# Altium footprint library PcbLib2.PcbLib: 22 footprints (part 2 of 2)
Each footprint in its own frame and in the unit in brackets; x right, y up, seen from the top. Pads: shape width x height; smd on the part's side, far side on the other; paste and mask are expansions set on the pad; w line width, h text height; cw(c..) or ccw(c..) is an arc to the next point about the centre after c.
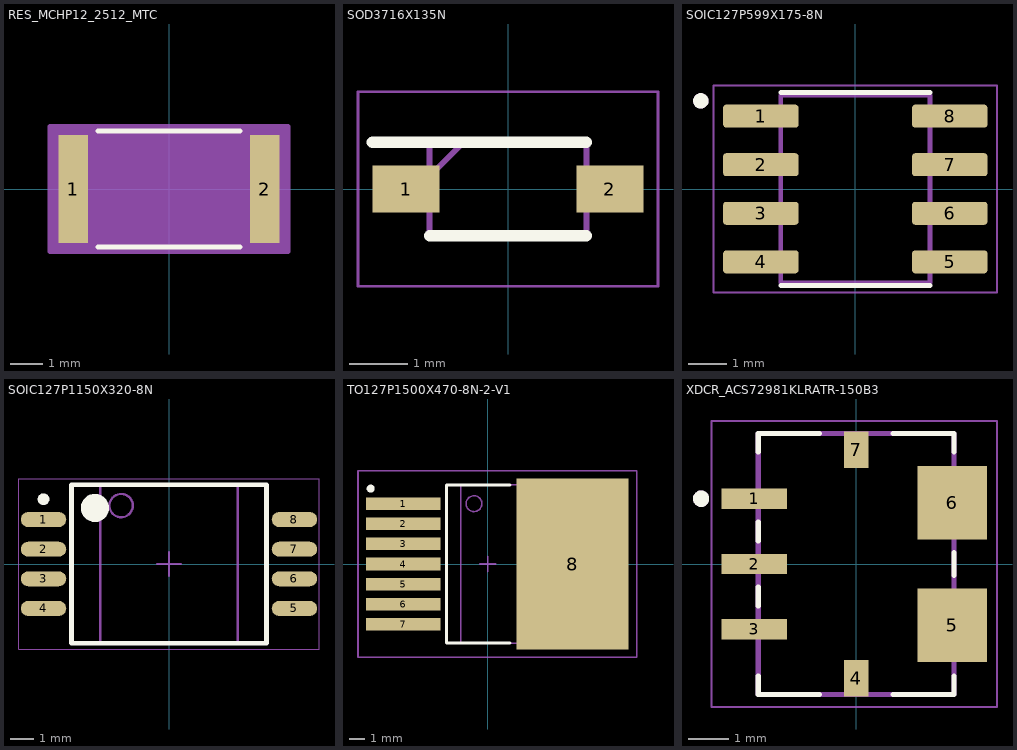
[diagram p1: the footprints below, top view; thin cyan lines are the x and y axes]

## RES_MCHP12_2512_MTC [mil]
pads (2):
  rect 36x132 smd paste+0 mask+0: 1(-117,0) 2(117,0)
Top Overlay:
  lines w6: -86.89,-71 86.89,-71 ; -86.89,71 86.89,71
Top Designator:
  text ".Designator" at -166.23,-19.99 h60
Mechanical 13:
  lines w1: -127,-66 -127,66 ; -127,-66 -99,-66 -99,66 -127,66 ; -127,-66 127,-66 ; -127,-66 -127,66 ; -127,66 127,66 ; 127,-66 99,-66 99,66 127,66 ; 127,-66 127,66 ; 127,-66 127,66
Mechanical 15:
  region: 145,-76 -145,-76 -145,76 145,76
  lines w6: -145,-76 -145,76 145,76 145,-76 -145,-76
3D body "RES_MCHP12_2512_MTC.step": height 25.98, standoff 0, extent -127.01,-65.98 127.01,65.98

## SOD3716X135N [mm]
pads (2):
  rect 1.15x0.8 smd: 1(-1.75,0) 2(1.75,0)
Top Overlay:
  lines w0.2: -2.325,0.8 1.345,0.8 ; -1.345,-0.8 1.345,-0.8
Top Designator:
  text ".Designator" at -7.618,-0.508 h1.52
Mechanical 15:
  lines w0.1: -1.345,0.225 -0.77,0.8 ; -1.345,-0.8 1.345,-0.8 1.345,0.8 -1.345,0.8 -1.345,-0.8
Mechanical 20:
  lines w0.05: -2.575,-1.67 2.575,-1.67 2.575,1.67 -2.575,1.67 -2.575,-1.67
3D body "SZMMSZ3V3T1G.stp": height 1.35, standoff 0, extent -1.855,-0.8 1.855,0.8

## SOIC127P599X175-8N [mm]
pads (8):
  rrect25% 1.97x0.6 smd: 1(-2.47,1.905) 2(-2.47,0.635) 3(-2.47,-0.635) 4(-2.47,-1.905) 5(2.47,-1.905) 6(2.47,-0.635) 7(2.47,0.635) 8(2.47,1.905)
Top Overlay:
  circle w0.2: c-4.04,2.305 r0.1
  lines w0.127: -1.95,-2.525 1.95,-2.525 ; -1.95,2.525 1.95,2.525
Top Designator:
  text ".Designator" at -7.873,-0.508 h1.52
Mechanical 13:
  circle w0.2: c-4.04,2.305 r0.1
  lines w0.127: -1.95,-2.452 -1.95,2.452 1.95,2.452 1.95,-2.452 -1.95,-2.452
Mechanical 15:
  lines w0.05: -3.705,-2.702 -3.705,2.702 3.705,2.702 3.705,-2.702 -3.705,-2.702
3D body "OPA237UA (1).STEP": height 1.75, standoff 0, extent -3,-2.45 3,2.45

## SOIC127P1150X320-8N [mm] "SOIC, 8-Leads, Body 6,80x5,85mm, Pitch 1,27mm, IPC Medium Density"
height 3.2
pads (8):
  oval 1.95x0.64 smd: 1(-5.375,1.905) 2(-5.375,0.635) 3(-5.375,-0.635) 4(-5.375,-1.905) 5(5.375,-1.905) 6(5.375,-0.635) 7(5.375,0.635) 8(5.375,1.905)
Top Overlay:
  circle w0.6: c-3.175,2.4 r0.3
  circle w0.25: c-5.375,2.775 r0.125
  lines w0.2: -4.175,-3.4 4.175,-3.4 4.175,3.4 -4.175,3.4 -4.175,-3.4
Top Designator:
  text ".Designator" at -7.618,-0.508 h1.52
Mechanical 13:
  circle w0.1: c-2.05,2.5 r0.5
  lines w0.1: -2.95,-3.4 2.95,-3.4 2.95,3.4 -2.95,3.4 -2.95,-3.4
Mechanical 15:
  lines w0.05: -6.425,-3.65 6.425,-3.65 6.425,3.65 -6.425,3.65 -6.425,-3.65
  lines w0.1: -0.5,0 0.5,0 ; 0,-0.5 0,0.5
3D body "SOIC127P1150X320-8N.step": height 3.2, standoff 0, extent -5.75,-3.4 5.75,3.4

## TO127P1500X470-8N-2-V1 [mm] "TO,1.27mm pitch;7 pin,15.00mm L X 9.25mm W X 4.70mm H body"
height 4.7
pads (8):
  rect 4.7x0.8 smd paste-0.05 mask+0: 1(-5.35,3.81) 2(-5.35,2.54) 3(-5.35,1.27) 4(-5.35,0) 5(-5.35,-1.27) 6(-5.35,-2.54) 7(-5.35,-3.81)
  rect 7.1x10.8 smd paste-3.55 mask+0: 8(5.35,0)
Top Overlay:
  circle w0.25: c-7.4,4.76 r0.125
  lines w0.2: 1.4,-5 -2.6,-5 -2.6,5 1.4,5
Top Paste:
  region: 5.195,-0.15 1.845,-0.15 1.845,-5.35 5.195,-5.35
  region: 5.195,5.35 1.845,5.35 1.845,0.15 5.195,0.15
  region: 8.845,-0.15 5.495,-0.15 5.495,-5.35 8.845,-5.35
  region: 8.845,5.35 5.495,5.35 5.495,0.15 8.845,0.15
Top Designator:
  text ".Designator" at -7.018,-0.508 h1.52
Mechanical 3:
  text ".DESIGNATOR" at 0,0 h1.2
Mechanical 13:
  circle w0.1: c-0.871,3.81 r0.5
  lines w0.1: -1.7,-5 7.55,-5 7.55,5 -1.7,5 -1.7,-5
Mechanical 15:
  lines w0.1: -0.5,0 0.5,0 ; 0,-0.5 0,0.5 ; -8.2,-5.9 9.4,-5.9 9.4,5.9 -8.2,5.9 -8.2,-5.9
3D body "PG-TO263-7-12_Z8B00189320_01_3D.stp": height 4.51, standoff 0, extent -6.4,-5 8.55,5

## XDCR_ACS72981KLRATR-150B3 [mm]
height 1.6
pads (7):
  rect 1.6x0.5 smd: 1(-2.5,1.6) 2(-2.5,0) 3(-2.5,-1.6)
  rect 0.6x0.9 smd: 4(0,-2.8) 7(0,2.8)
  rect 1.7x1.8 smd: 5(2.35,-1.5) 6(2.35,1.5)
Top Overlay:
  circle w0.2: c-3.8,1.6 r0.1
  lines w0.127: -2.4,-2.75 -2.4,-3.2 -0.9,-3.2 ; -2.4,-1.03 -2.4,-0.57 ; -2.4,0.57 -2.4,1.03 ; -2.4,2.75 -2.4,3.2 -0.9,3.2 ; 0.9,-3.2 2.4,-3.2 2.4,-2.75 ; 0.9,3.2 2.4,3.2 2.4,2.75 ; 2.4,-0.28 2.4,0.28
Top Designator:
  text ".Designator" at -7.88,-0.508 h1.52
Mechanical 13:
  circle w0.2: c-3.8,1.6 r0.1
  lines w0.127: -2.4,-3.2 -2.4,3.2 2.4,3.2 2.4,-3.2 -2.4,-3.2
Mechanical 15:
  lines w0.05: -3.55,-3.5 -3.55,3.5 3.45,3.5 3.45,-3.5 -3.55,-3.5
3D body "step_temp.STEP": height 1.6, standoff 0, extent -3.3,-3.2 3.2,3.2